# EAGLE library part DRV8870 (library TWIPR)
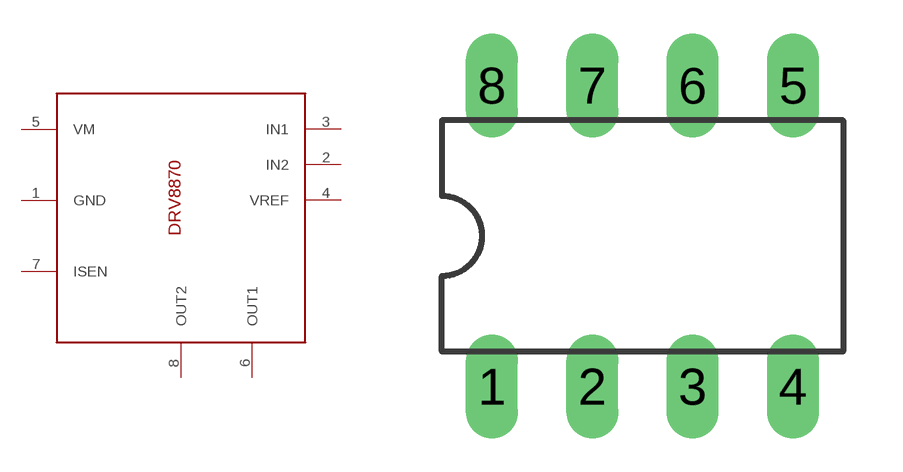
[diagram p0: symbol with the pads of DIL08; footprint DIL08]

Designator prefix -

## DRV8870  [DIL08]
1  GND
2  IN2
3  IN1
4  VREF
5  VM
6  OUT1
7  ISEN
8  OUT2

## Footprint DIL08 (pad centres in mm)
Dual In Line Package
drill 0.813 long: 1 -3.81,-3.81; 2 -1.27,-3.81; 3 1.27,-3.81; 4 3.81,-3.81; 5 3.81,3.81; 6 1.27,3.81; 7 -1.27,3.81; 8 -3.81,3.81